# EAGLE library part MC33996EKR2 (library bed_components)
16 Output Switch
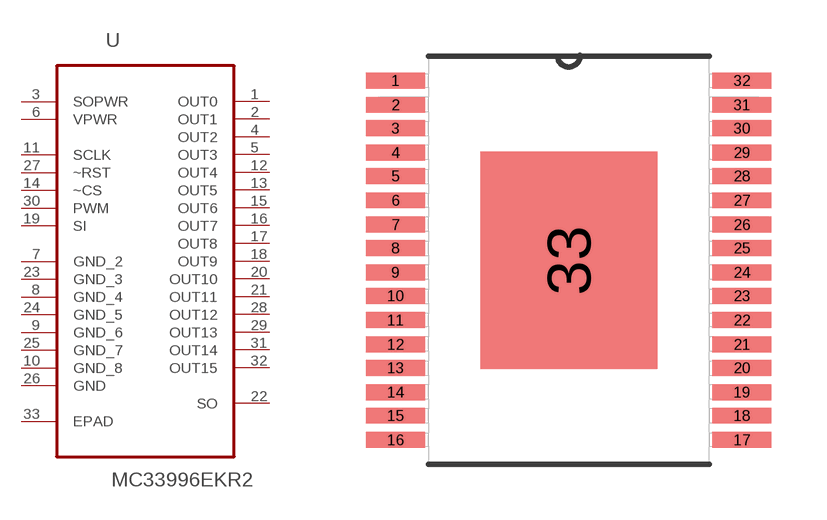
[diagram p0: symbol with the pads of SOIC65P1030X265-32N; footprint SOIC65P1030X265-32N]

Designator prefix U

## MC33996EKR2 (AVAILABILITY: Unavailable; DESCRIPTION: 1000; MF: NXP USA; MP: MC33996EKR2; PACKAGE: SOIC-32 Freescale Semiconductor; PRICE: None)  [SOIC65P1030X265-32N]
1  OUT0  out
2  OUT1  out
3  SOPWR  pwr
4  OUT2  out
5  OUT3  out
6  VPWR  pwr
7  GND_2  pas
8  GND_4  pas
9  GND_6  pas
10  GND_8  pas
11  SCLK  in
12  OUT4  out
13  OUT5  out
14  ~CS  in
15  OUT6  out
16  OUT7  out
17  OUT8  out
18  OUT9  out
19  SI  in
20  OUT10  out
21  OUT11  out
22  SO  out
23  GND_3  pas
24  GND_5  pas
25  GND_7  pas
26  GND  pas
27  ~RST  in
28  OUT12  out
29  OUT13  out
30  PWM  in
31  OUT14  out
32  OUT15  out
33  EPAD  pas

## Footprint SOIC65P1030X265-32N (pad centres in mm)
smd 1.6 x 0.432: 1 -4.699,4.877; 2 -4.699,4.216; 3 -4.699,3.581; 4 -4.699,2.921; 5 -4.699,2.286; 6 -4.699,1.626; 7 -4.699,0.965; 8 -4.699,0.33; 9 -4.699,-0.33; 10 -4.699,-0.965; 11 -4.699,-1.626; 12 -4.699,-2.286; 13 -4.699,-2.921; 14 -4.699,-3.581; 15 -4.699,-4.216; 16 -4.699,-4.877; 17 4.699,-4.877; 18 4.699,-4.216; 19 4.699,-3.581; 20 4.699,-2.921; 21 4.699,-2.286; 22 4.699,-1.626; 23 4.699,-0.965; 24 4.699,-0.33; 25 4.699,0.33; 26 4.699,0.965; 27 4.699,1.626; 28 4.699,2.286; 29 4.699,2.921; 30 4.699,3.581; 31 4.699,4.216; 32 4.699,4.877
smd 4.801 x 5.893: 33 0,0